# Altium footprint library MCUPcbLib.PcbLib: 2 footprints
Each footprint in its own frame and in the unit in brackets; x right, y up, seen from the top. Pads: shape width x height; smd on the part's side, far side on the other; paste and mask are expansions set on the pad; w line width, h text height; cw(c..) or ccw(c..) is an arc to the next point about the centre after c.
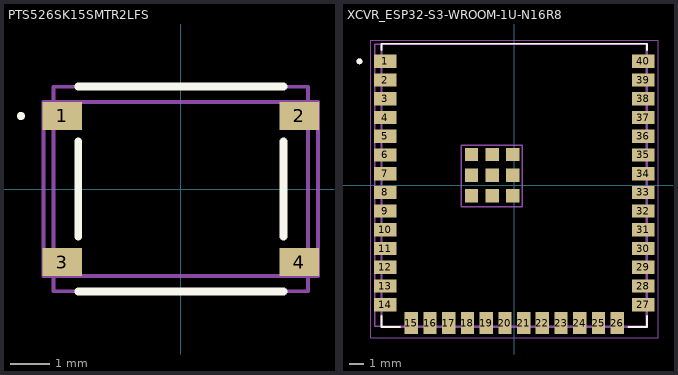
[diagram p0: the footprints below, top view; thin cyan lines are the x and y axes]

## PTS526SK15SMTR2LFS [mm]
pads (4):
  rect 1x0.7 smd: 1(-3,1.85) 2(3,1.85) 3(-3,-1.85) 4(3,-1.85)
Top Overlay:
  lines w0.1: -4.1,1.85 ccw(c-4.05,1.85) -4,1.85 ccw(c-4.05,1.85) -4.1,1.85
  lines w0.2: -2.6,-2.6 2.6,-2.6 ; -2.6,-1.2 -2.6,1.2 ; -2.6,2.6 2.6,2.6 ; 2.6,-1.2 2.6,1.2
Top Assembly:
  lines w0.1: -3.479,-2.209 3.479,-2.209 3.479,2.209 -3.479,2.209 -3.479,-2.209
  text ".Designator" at -1.397,-0.349 h1.52
Top Component Oultine:
  lines w0.1: -3.225,-2.59 3.225,-2.59 3.225,2.59 -3.225,2.59 -3.225,-2.59
Mechanical 15:
  lines w0.1: -3.225,-2.59 3.225,-2.59 3.225,2.59 -3.225,2.59 -3.225,-2.59
3D body "PTS526SK15SMTR2_LFS.stp": height 1.5, standoff -0.05, extent -3.2,-2.55 3.2,2.55

## XCVR_ESP32-S3-WROOM-1U-N16R8 [mm]
height 3.35
pads (49):
  rect 1.5x0.9 smd: 1(-8.75,8.41) 2(-8.75,7.14) 3(-8.75,5.87) 4(-8.75,4.6) 5(-8.75,3.33) 6(-8.75,2.06) 7(-8.75,0.79) 8(-8.75,-0.48) 9(-8.75,-1.75) 10(-8.75,-3.02) 11(-8.75,-4.29) 12(-8.75,-5.56) 13(-8.75,-6.83) 14(-8.75,-8.1) 27(8.75,-8.1) 28(8.75,-6.83) 29(8.75,-5.56) 30(8.75,-4.29) 31(8.75,-3.02) 32(8.75,-1.75) 33(8.75,-0.48) 34(8.75,0.79) 35(8.75,2.06) 36(8.75,3.33) 37(8.75,4.6) 38(8.75,5.87) 39(8.75,7.14) 40(8.75,8.41)
  rect 0.9x1.5 smd: 15(-6.985,-9.35) 16(-5.715,-9.35) 17(-4.445,-9.35) 18(-3.175,-9.35) 19(-1.905,-9.35) 20(-0.635,-9.35) 21(0.635,-9.35) 22(1.905,-9.35) 23(3.175,-9.35) 24(4.445,-9.35) 25(5.715,-9.35) 26(6.985,-9.35)
  rect 0.9x0.9 smd: 41_1(-2.9,2.09) 41_2(-1.5,2.09) 41_3(-0.1,2.09) 41_4(-2.9,0.69) 41_5(-1.5,0.69) 41_6(-0.1,0.69) 41_7(-2.9,-0.71) 41_8(-1.5,-0.71) 41_9(-0.1,-0.71)
Top Overlay:
  circle w0.2: c-10.5,8.41 r0.1
  lines w0.127: -9,-8.87 -9,-9.6 -7.755,-9.6 ; -9,9.18 -9,9.6 9,9.6 9,9.18 ; 7.755,-9.6 9,-9.6 9,-8.87
Top Assembly:
  lines w0.1: -9.448,-9.575 8.94,-9.575 8.94,9.575 -9.448,9.575 -9.448,-9.575 ; -3.606,-1.447 0.558,-1.447 0.558,2.717 -3.606,2.717 -3.606,-1.447
Top Component Oultine:
  circle w0.2: c-10.5,8.41 r0.1
  lines w0.127: -9,-9.6 9,-9.6 9,9.6 -9,9.6 -9,-9.6
Mechanical 15:
  lines w0.05: -9.75,-10.35 -9.75,9.85 9.75,9.85 9.75,-10.35 -9.75,-10.35
3D body "step_temp.STEP": height 3.35, standoff 0, extent -9,-9.6 9,9.6